# Altium integrated library ST Memory EEPROM Serial.IntLib: 637 symbols (part 6 of 7)
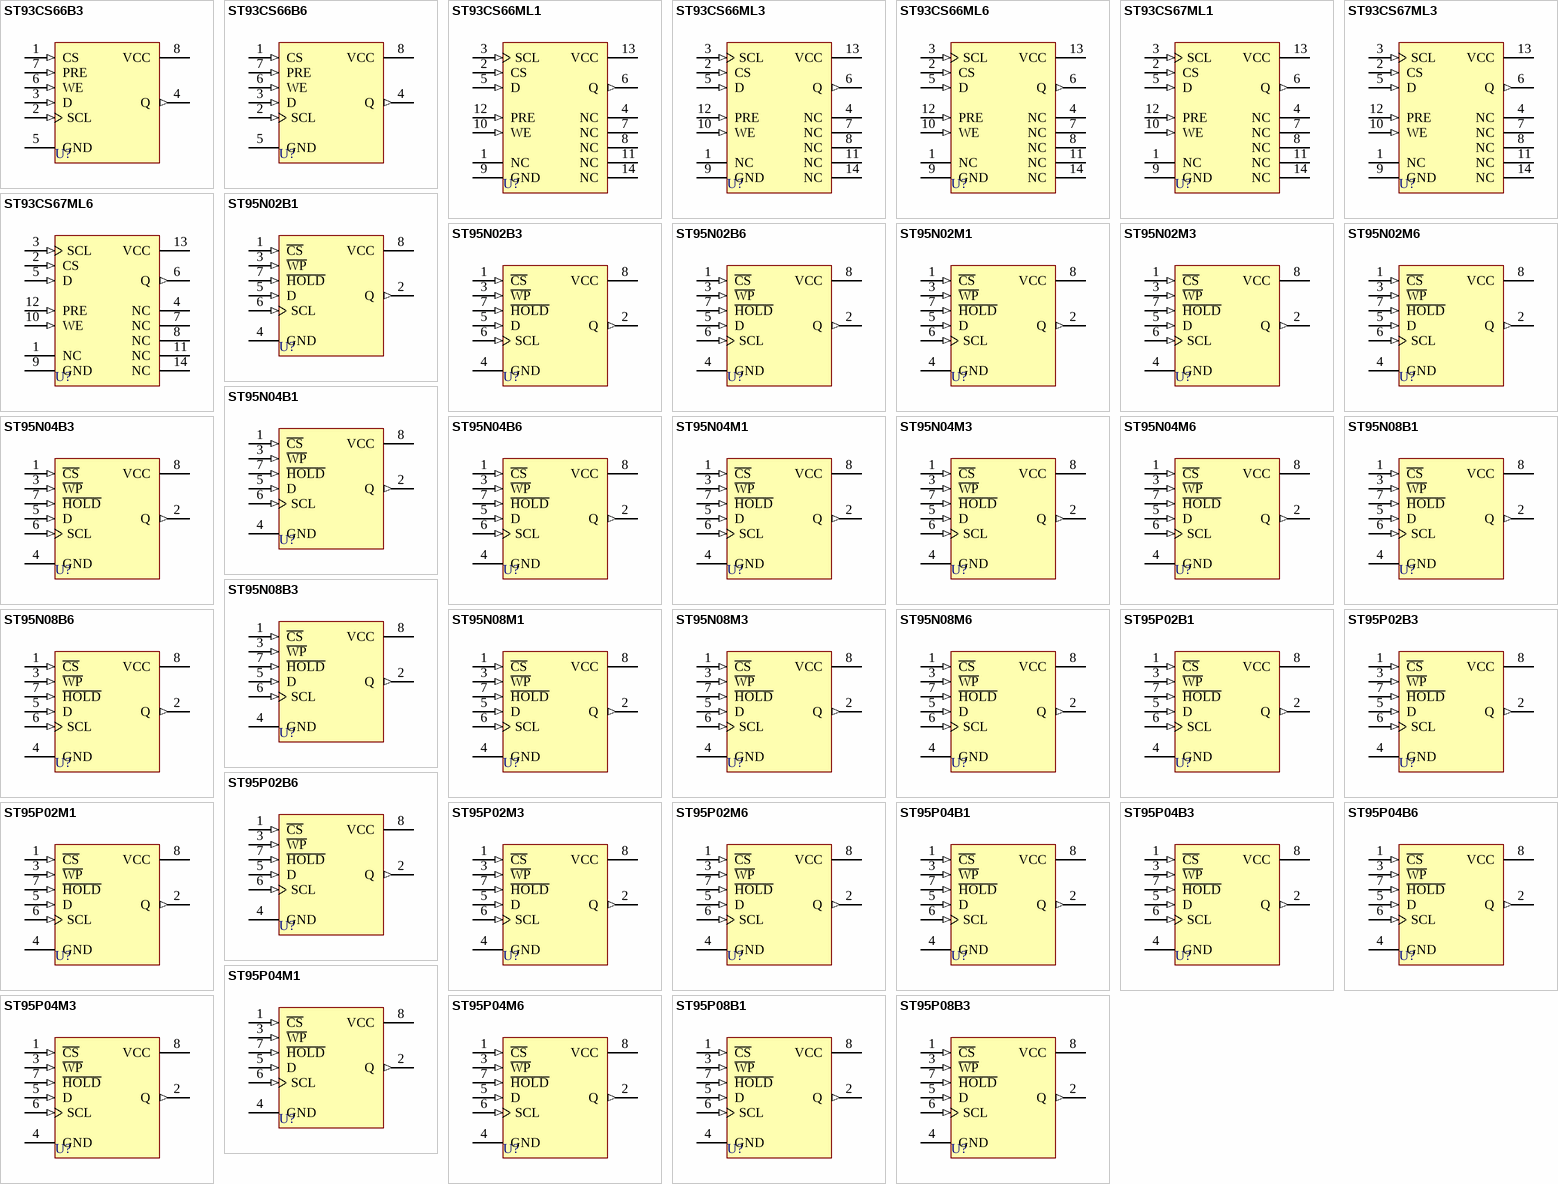
[diagram p20: symbols ST93CS66B3 to ST95P08B3]

## ST95N02B3
designator U?
Serial Access SPI Bus 2K (256 x 8) EEPROM; Published: 24-Aug-2001; LatestRevisionDate: 17-Jul-2002; LatestRevisionNote: Re-released for DXP Platform.; DatasheetDocument: Jun-1995; PackageDocument: Jun-1998; PackageReference: PSDIP8A; Publisher: Altium Limited
footprint PSDIP8A (DIP; 8 Leads; Row Spacing 7.62 mm; Pitch 2.54 mm)
pins: 1 ~{CS} (in), 2 Q (out), 3 ~{WP} (in), 4 GND (power), 5 D (in), 6 SCL (in), 7 ~{HOLD} (in), 8 VCC (power)

## ST95N02B6
designator U?
Serial Access SPI Bus 2K (256 x 8) EEPROM; Published: 24-Aug-2001; LatestRevisionDate: 17-Jul-2002; LatestRevisionNote: Re-released for DXP Platform.; DatasheetDocument: Jun-1995; PackageDocument: Jun-1998; PackageReference: PSDIP8A; Publisher: Altium Limited
footprint PSDIP8A (DIP; 8 Leads; Row Spacing 7.62 mm; Pitch 2.54 mm)
pins: 1 ~{CS} (in), 2 Q (out), 3 ~{WP} (in), 4 GND (power), 5 D (in), 6 SCL (in), 7 ~{HOLD} (in), 8 VCC (power)

## ST95N02M1
designator U?
Serial Access SPI Bus 2K (256 x 8) EEPROM; Published: 24-Aug-2001; LatestRevisionDate: 17-Jul-2002; LatestRevisionNote: Re-released for DXP Platform.; DatasheetDocument: Jun-1995; PackageDocument: Jul-1999; PackageReference: SOP8; Publisher: Altium Limited
footprint SOP8 (Small Outline; 8 Leads; Body Width 3.9 mm; Pitch 1.27 mm)
pins: 1 ~{CS} (in), 2 Q (out), 3 ~{WP} (in), 4 GND (power), 5 D (in), 6 SCL (in), 7 ~{HOLD} (in), 8 VCC (power)

## ST95N02M3
designator U?
Serial Access SPI Bus 2K (256 x 8) EEPROM; Published: 24-Aug-2001; LatestRevisionDate: 17-Jul-2002; LatestRevisionNote: Re-released for DXP Platform.; DatasheetDocument: Jun-1995; PackageDocument: Jul-1999; PackageReference: SOP8; Publisher: Altium Limited
footprint SOP8 (Small Outline; 8 Leads; Body Width 3.9 mm; Pitch 1.27 mm)
pins: 1 ~{CS} (in), 2 Q (out), 3 ~{WP} (in), 4 GND (power), 5 D (in), 6 SCL (in), 7 ~{HOLD} (in), 8 VCC (power)

## ST95N02M6
designator U?
Serial Access SPI Bus 2K (256 x 8) EEPROM; Published: 24-Aug-2001; LatestRevisionDate: 17-Jul-2002; LatestRevisionNote: Re-released for DXP Platform.; DatasheetDocument: Jun-1995; PackageDocument: Jul-1999; PackageReference: SOP8; Publisher: Altium Limited
footprint SOP8 (Small Outline; 8 Leads; Body Width 3.9 mm; Pitch 1.27 mm)
pins: 1 ~{CS} (in), 2 Q (out), 3 ~{WP} (in), 4 GND (power), 5 D (in), 6 SCL (in), 7 ~{HOLD} (in), 8 VCC (power)

## ST95N04B1
designator U?
Serial Access SPI Bus 4K (512 x 8) EEPROM; Published: 24-Aug-2001; LatestRevisionDate: 17-Jul-2002; LatestRevisionNote: Re-released for DXP Platform.; DatasheetDocument: Jun-1995; PackageDocument: Jun-1998; PackageReference: PSDIP8A; Publisher: Altium Limited
footprint PSDIP8A (DIP; 8 Leads; Row Spacing 7.62 mm; Pitch 2.54 mm)
pins: 1 ~{CS} (in), 2 Q (out), 3 ~{WP} (in), 4 GND (power), 5 D (in), 6 SCL (in), 7 ~{HOLD} (in), 8 VCC (power)

## ST95N04B3
designator U?
Serial Access SPI Bus 4K (512 x 8) EEPROM; Published: 24-Aug-2001; LatestRevisionDate: 17-Jul-2002; LatestRevisionNote: Re-released for DXP Platform.; DatasheetDocument: Jun-1995; PackageDocument: Jun-1998; PackageReference: PSDIP8A; Publisher: Altium Limited
footprint PSDIP8A (DIP; 8 Leads; Row Spacing 7.62 mm; Pitch 2.54 mm)
pins: 1 ~{CS} (in), 2 Q (out), 3 ~{WP} (in), 4 GND (power), 5 D (in), 6 SCL (in), 7 ~{HOLD} (in), 8 VCC (power)

## ST95N04B6
designator U?
Serial Access SPI Bus 4K (512 x 8) EEPROM; Published: 24-Aug-2001; LatestRevisionDate: 17-Jul-2002; LatestRevisionNote: Re-released for DXP Platform.; DatasheetDocument: Jun-1995; PackageDocument: Jun-1998; PackageReference: PSDIP8A; Publisher: Altium Limited
footprint PSDIP8A (DIP; 8 Leads; Row Spacing 7.62 mm; Pitch 2.54 mm)
pins: 1 ~{CS} (in), 2 Q (out), 3 ~{WP} (in), 4 GND (power), 5 D (in), 6 SCL (in), 7 ~{HOLD} (in), 8 VCC (power)

## ST95N04M1
designator U?
Serial Access SPI Bus 4K (512 x 8) EEPROM; Published: 24-Aug-2001; LatestRevisionDate: 17-Jul-2002; LatestRevisionNote: Re-released for DXP Platform.; DatasheetDocument: Jun-1995; PackageDocument: Jul-1999; PackageReference: SOP8; Publisher: Altium Limited
footprint SOP8 (Small Outline; 8 Leads; Body Width 3.9 mm; Pitch 1.27 mm)
pins: 1 ~{CS} (in), 2 Q (out), 3 ~{WP} (in), 4 GND (power), 5 D (in), 6 SCL (in), 7 ~{HOLD} (in), 8 VCC (power)

## ST95N04M3
designator U?
Serial Access SPI Bus 4K (512 x 8) EEPROM; Published: 24-Aug-2001; LatestRevisionDate: 17-Jul-2002; LatestRevisionNote: Re-released for DXP Platform.; DatasheetDocument: Jun-1995; PackageDocument: Jul-1999; PackageReference: SOP8; Publisher: Altium Limited
footprint SOP8 (Small Outline; 8 Leads; Body Width 3.9 mm; Pitch 1.27 mm)
pins: 1 ~{CS} (in), 2 Q (out), 3 ~{WP} (in), 4 GND (power), 5 D (in), 6 SCL (in), 7 ~{HOLD} (in), 8 VCC (power)

## ST95N04M6
designator U?
Serial Access SPI Bus 4K (512 x 8) EEPROM; Published: 24-Aug-2001; LatestRevisionDate: 17-Jul-2002; LatestRevisionNote: Re-released for DXP Platform.; DatasheetDocument: Jun-1995; PackageDocument: Jul-1999; PackageReference: SOP8; Publisher: Altium Limited
footprint SOP8 (Small Outline; 8 Leads; Body Width 3.9 mm; Pitch 1.27 mm)
pins: 1 ~{CS} (in), 2 Q (out), 3 ~{WP} (in), 4 GND (power), 5 D (in), 6 SCL (in), 7 ~{HOLD} (in), 8 VCC (power)

## ST95N08B1
designator U?
Serial Access SPI Bus 8K (1K x 8) EEPROM; Published: 24-Aug-2001; LatestRevisionDate: 17-Jul-2002; LatestRevisionNote: Re-released for DXP Platform.; DatasheetDocument: Jun-1995; PackageDocument: Jun-1998; PackageReference: PSDIP8A; Publisher: Altium Limited
footprint PSDIP8A (DIP; 8 Leads; Row Spacing 7.62 mm; Pitch 2.54 mm)
pins: 1 ~{CS} (in), 2 Q (out), 3 ~{WP} (in), 4 GND (power), 5 D (in), 6 SCL (in), 7 ~{HOLD} (in), 8 VCC (power)

## ST95N08B3
designator U?
Serial Access SPI Bus 8K (1K x 8) EEPROM; Published: 24-Aug-2001; LatestRevisionDate: 17-Jul-2002; LatestRevisionNote: Re-released for DXP Platform.; DatasheetDocument: Jun-1995; PackageDocument: Jun-1998; PackageReference: PSDIP8A; Publisher: Altium Limited
footprint PSDIP8A (DIP; 8 Leads; Row Spacing 7.62 mm; Pitch 2.54 mm)
pins: 1 ~{CS} (in), 2 Q (out), 3 ~{WP} (in), 4 GND (power), 5 D (in), 6 SCL (in), 7 ~{HOLD} (in), 8 VCC (power)

## ST95N08B6
designator U?
Serial Access SPI Bus 8K (1K x 8) EEPROM; Published: 24-Aug-2001; LatestRevisionDate: 17-Jul-2002; LatestRevisionNote: Re-released for DXP Platform.; DatasheetDocument: Jun-1995; PackageDocument: Jun-1998; PackageReference: PSDIP8A; Publisher: Altium Limited
footprint PSDIP8A (DIP; 8 Leads; Row Spacing 7.62 mm; Pitch 2.54 mm)
pins: 1 ~{CS} (in), 2 Q (out), 3 ~{WP} (in), 4 GND (power), 5 D (in), 6 SCL (in), 7 ~{HOLD} (in), 8 VCC (power)

## ST95N08M1
designator U?
Serial Access SPI Bus 8K (1K x 8) EEPROM; Published: 24-Aug-2001; LatestRevisionDate: 17-Jul-2002; LatestRevisionNote: Re-released for DXP Platform.; DatasheetDocument: Jun-1995; PackageDocument: Jul-1999; PackageReference: SOP8; Publisher: Altium Limited
footprint SOP8 (Small Outline; 8 Leads; Body Width 3.9 mm; Pitch 1.27 mm)
pins: 1 ~{CS} (in), 2 Q (out), 3 ~{WP} (in), 4 GND (power), 5 D (in), 6 SCL (in), 7 ~{HOLD} (in), 8 VCC (power)

## ST95N08M3
designator U?
Serial Access SPI Bus 8K (1K x 8) EEPROM; Published: 24-Aug-2001; LatestRevisionDate: 17-Jul-2002; LatestRevisionNote: Re-released for DXP Platform.; DatasheetDocument: Jun-1995; PackageDocument: Jul-1999; PackageReference: SOP8; Publisher: Altium Limited
footprint SOP8 (Small Outline; 8 Leads; Body Width 3.9 mm; Pitch 1.27 mm)
pins: 1 ~{CS} (in), 2 Q (out), 3 ~{WP} (in), 4 GND (power), 5 D (in), 6 SCL (in), 7 ~{HOLD} (in), 8 VCC (power)

## ST95N08M6
designator U?
Serial Access SPI Bus 8K (1K x 8) EEPROM; Published: 24-Aug-2001; LatestRevisionDate: 17-Jul-2002; LatestRevisionNote: Re-released for DXP Platform.; DatasheetDocument: Jun-1995; PackageDocument: Jul-1999; PackageReference: SOP8; Publisher: Altium Limited
footprint SOP8 (Small Outline; 8 Leads; Body Width 3.9 mm; Pitch 1.27 mm)
pins: 1 ~{CS} (in), 2 Q (out), 3 ~{WP} (in), 4 GND (power), 5 D (in), 6 SCL (in), 7 ~{HOLD} (in), 8 VCC (power)

## ST95P02B1
designator U?
Serial Access SPI Bus 2K (256 x 8) EEPROM; Published: 24-Aug-2001; LatestRevisionDate: 17-Jul-2002; LatestRevisionNote: Re-released for DXP Platform.; DatasheetDocument: Jun-1996; PackageDocument: Jun-1998; PackageReference: PSDIP8A; Publisher: Altium Limited
footprint PSDIP8A (DIP; 8 Leads; Row Spacing 7.62 mm; Pitch 2.54 mm)
pins: 1 ~{CS} (in), 2 Q (out), 3 ~{WP} (in), 4 GND (power), 5 D (in), 6 SCL (in), 7 ~{HOLD} (in), 8 VCC (power)

## ST95P02B3
designator U?
Serial Access SPI Bus 2K (256 x 8) EEPROM; Published: 24-Aug-2001; LatestRevisionDate: 17-Jul-2002; LatestRevisionNote: Re-released for DXP Platform.; DatasheetDocument: Jun-1996; PackageDocument: Jun-1998; PackageReference: PSDIP8A; Publisher: Altium Limited
footprint PSDIP8A (DIP; 8 Leads; Row Spacing 7.62 mm; Pitch 2.54 mm)
pins: 1 ~{CS} (in), 2 Q (out), 3 ~{WP} (in), 4 GND (power), 5 D (in), 6 SCL (in), 7 ~{HOLD} (in), 8 VCC (power)

## ST95P02B6
designator U?
Serial Access SPI Bus 2K (256 x 8) EEPROM; Published: 24-Aug-2001; LatestRevisionDate: 17-Jul-2002; LatestRevisionNote: Re-released for DXP Platform.; DatasheetDocument: Jun-1996; PackageDocument: Jun-1998; PackageReference: PSDIP8A; Publisher: Altium Limited
footprint PSDIP8A (DIP; 8 Leads; Row Spacing 7.62 mm; Pitch 2.54 mm)
pins: 1 ~{CS} (in), 2 Q (out), 3 ~{WP} (in), 4 GND (power), 5 D (in), 6 SCL (in), 7 ~{HOLD} (in), 8 VCC (power)

## ST95P02M1
designator U?
Serial Access SPI Bus 2K (256 x 8) EEPROM; Published: 24-Aug-2001; LatestRevisionDate: 17-Jul-2002; LatestRevisionNote: Re-released for DXP Platform.; DatasheetDocument: Jun-1996; PackageDocument: Jul-1999; PackageReference: SOP8; Publisher: Altium Limited
footprint SOP8 (Small Outline; 8 Leads; Body Width 3.9 mm; Pitch 1.27 mm)
pins: 1 ~{CS} (in), 2 Q (out), 3 ~{WP} (in), 4 GND (power), 5 D (in), 6 SCL (in), 7 ~{HOLD} (in), 8 VCC (power)

## ST95P02M3
designator U?
Serial Access SPI Bus 2K (256 x 8) EEPROM; Published: 24-Aug-2001; LatestRevisionDate: 17-Jul-2002; LatestRevisionNote: Re-released for DXP Platform.; DatasheetDocument: Jun-1996; PackageDocument: Jul-1999; PackageReference: SOP8; Publisher: Altium Limited
footprint SOP8 (Small Outline; 8 Leads; Body Width 3.9 mm; Pitch 1.27 mm)
pins: 1 ~{CS} (in), 2 Q (out), 3 ~{WP} (in), 4 GND (power), 5 D (in), 6 SCL (in), 7 ~{HOLD} (in), 8 VCC (power)

## ST95P02M6
designator U?
Serial Access SPI Bus 2K (256 x 8) EEPROM; Published: 24-Aug-2001; LatestRevisionDate: 17-Jul-2002; LatestRevisionNote: Re-released for DXP Platform.; DatasheetDocument: Jun-1996; PackageDocument: Jul-1999; PackageReference: SOP8; Publisher: Altium Limited
footprint SOP8 (Small Outline; 8 Leads; Body Width 3.9 mm; Pitch 1.27 mm)
pins: 1 ~{CS} (in), 2 Q (out), 3 ~{WP} (in), 4 GND (power), 5 D (in), 6 SCL (in), 7 ~{HOLD} (in), 8 VCC (power)

## ST95P04B1
designator U?
Serial Access SPI Bus 4K (512 x 8) EEPROM; Published: 24-Aug-2001; LatestRevisionDate: 17-Jul-2002; LatestRevisionNote: Re-released for DXP Platform.; DatasheetDocument: Jun-1996; PackageDocument: Jun-1998; PackageReference: PSDIP8A; Publisher: Altium Limited
footprint PSDIP8A (DIP; 8 Leads; Row Spacing 7.62 mm; Pitch 2.54 mm)
pins: 1 ~{CS} (in), 2 Q (out), 3 ~{WP} (in), 4 GND (power), 5 D (in), 6 SCL (in), 7 ~{HOLD} (in), 8 VCC (power)

## ST95P04B3
designator U?
Serial Access SPI Bus 4K (512 x 8) EEPROM; Published: 24-Aug-2001; LatestRevisionDate: 17-Jul-2002; LatestRevisionNote: Re-released for DXP Platform.; DatasheetDocument: Jun-1996; PackageDocument: Jun-1998; PackageReference: PSDIP8A; Publisher: Altium Limited
footprint PSDIP8A (DIP; 8 Leads; Row Spacing 7.62 mm; Pitch 2.54 mm)
pins: 1 ~{CS} (in), 2 Q (out), 3 ~{WP} (in), 4 GND (power), 5 D (in), 6 SCL (in), 7 ~{HOLD} (in), 8 VCC (power)

## ST95P04B6
designator U?
Serial Access SPI Bus 4K (512 x 8) EEPROM; Published: 24-Aug-2001; LatestRevisionDate: 17-Jul-2002; LatestRevisionNote: Re-released for DXP Platform.; DatasheetDocument: Jun-1996; PackageDocument: Jun-1998; PackageReference: PSDIP8A; Publisher: Altium Limited
footprint PSDIP8A (DIP; 8 Leads; Row Spacing 7.62 mm; Pitch 2.54 mm)
pins: 1 ~{CS} (in), 2 Q (out), 3 ~{WP} (in), 4 GND (power), 5 D (in), 6 SCL (in), 7 ~{HOLD} (in), 8 VCC (power)

## ST95P04M1
designator U?
Serial Access SPI Bus 4K (512 x 8) EEPROM; Published: 24-Aug-2001; LatestRevisionDate: 17-Jul-2002; LatestRevisionNote: Re-released for DXP Platform.; DatasheetDocument: Jun-1996; PackageDocument: Jul-1999; PackageReference: SOP8; Publisher: Altium Limited
footprint SOP8 (Small Outline; 8 Leads; Body Width 3.9 mm; Pitch 1.27 mm)
pins: 1 ~{CS} (in), 2 Q (out), 3 ~{WP} (in), 4 GND (power), 5 D (in), 6 SCL (in), 7 ~{HOLD} (in), 8 VCC (power)

## ST95P04M3
designator U?
Serial Access SPI Bus 4K (512 x 8) EEPROM; Published: 24-Aug-2001; LatestRevisionDate: 17-Jul-2002; LatestRevisionNote: Re-released for DXP Platform.; DatasheetDocument: Jun-1996; PackageDocument: Jul-1999; PackageReference: SOP8; Publisher: Altium Limited
footprint SOP8 (Small Outline; 8 Leads; Body Width 3.9 mm; Pitch 1.27 mm)
pins: 1 ~{CS} (in), 2 Q (out), 3 ~{WP} (in), 4 GND (power), 5 D (in), 6 SCL (in), 7 ~{HOLD} (in), 8 VCC (power)

## ST95P04M6
designator U?
Serial Access SPI Bus 4K (512 x 8) EEPROM; Published: 24-Aug-2001; LatestRevisionDate: 17-Jul-2002; LatestRevisionNote: Re-released for DXP Platform.; DatasheetDocument: Jun-1996; PackageDocument: Jul-1999; PackageReference: SOP8; Publisher: Altium Limited
footprint SOP8 (Small Outline; 8 Leads; Body Width 3.9 mm; Pitch 1.27 mm)
pins: 1 ~{CS} (in), 2 Q (out), 3 ~{WP} (in), 4 GND (power), 5 D (in), 6 SCL (in), 7 ~{HOLD} (in), 8 VCC (power)

## ST95P08B1
designator U?
8 Kbit Serial SPI EEPROM with Positive Clock Strobe; Published: 24-Aug-2001; LatestRevisionDate: 17-Jul-2002; LatestRevisionNote: Re-released for DXP Platform.; DatasheetDocument: Feb-1999; PackageDocument: Jun-1998; PackageReference: PSDIP8A; Publisher: Altium Limited
footprint PSDIP8A (DIP; 8 Leads; Row Spacing 7.62 mm; Pitch 2.54 mm)
pins: 1 ~{CS} (in), 2 Q (out), 3 ~{WP} (in), 4 GND (power), 5 D (in), 6 SCL (in), 7 ~{HOLD} (in), 8 VCC (power)

## ST95P08B3
designator U?
8 Kbit Serial SPI EEPROM with Positive Clock Strobe; Published: 24-Aug-2001; LatestRevisionDate: 17-Jul-2002; LatestRevisionNote: Re-released for DXP Platform.; DatasheetDocument: Feb-1999; PackageDocument: Jun-1998; PackageReference: PSDIP8A; Publisher: Altium Limited
footprint PSDIP8A (DIP; 8 Leads; Row Spacing 7.62 mm; Pitch 2.54 mm)
pins: 1 ~{CS} (in), 2 Q (out), 3 ~{WP} (in), 4 GND (power), 5 D (in), 6 SCL (in), 7 ~{HOLD} (in), 8 VCC (power)

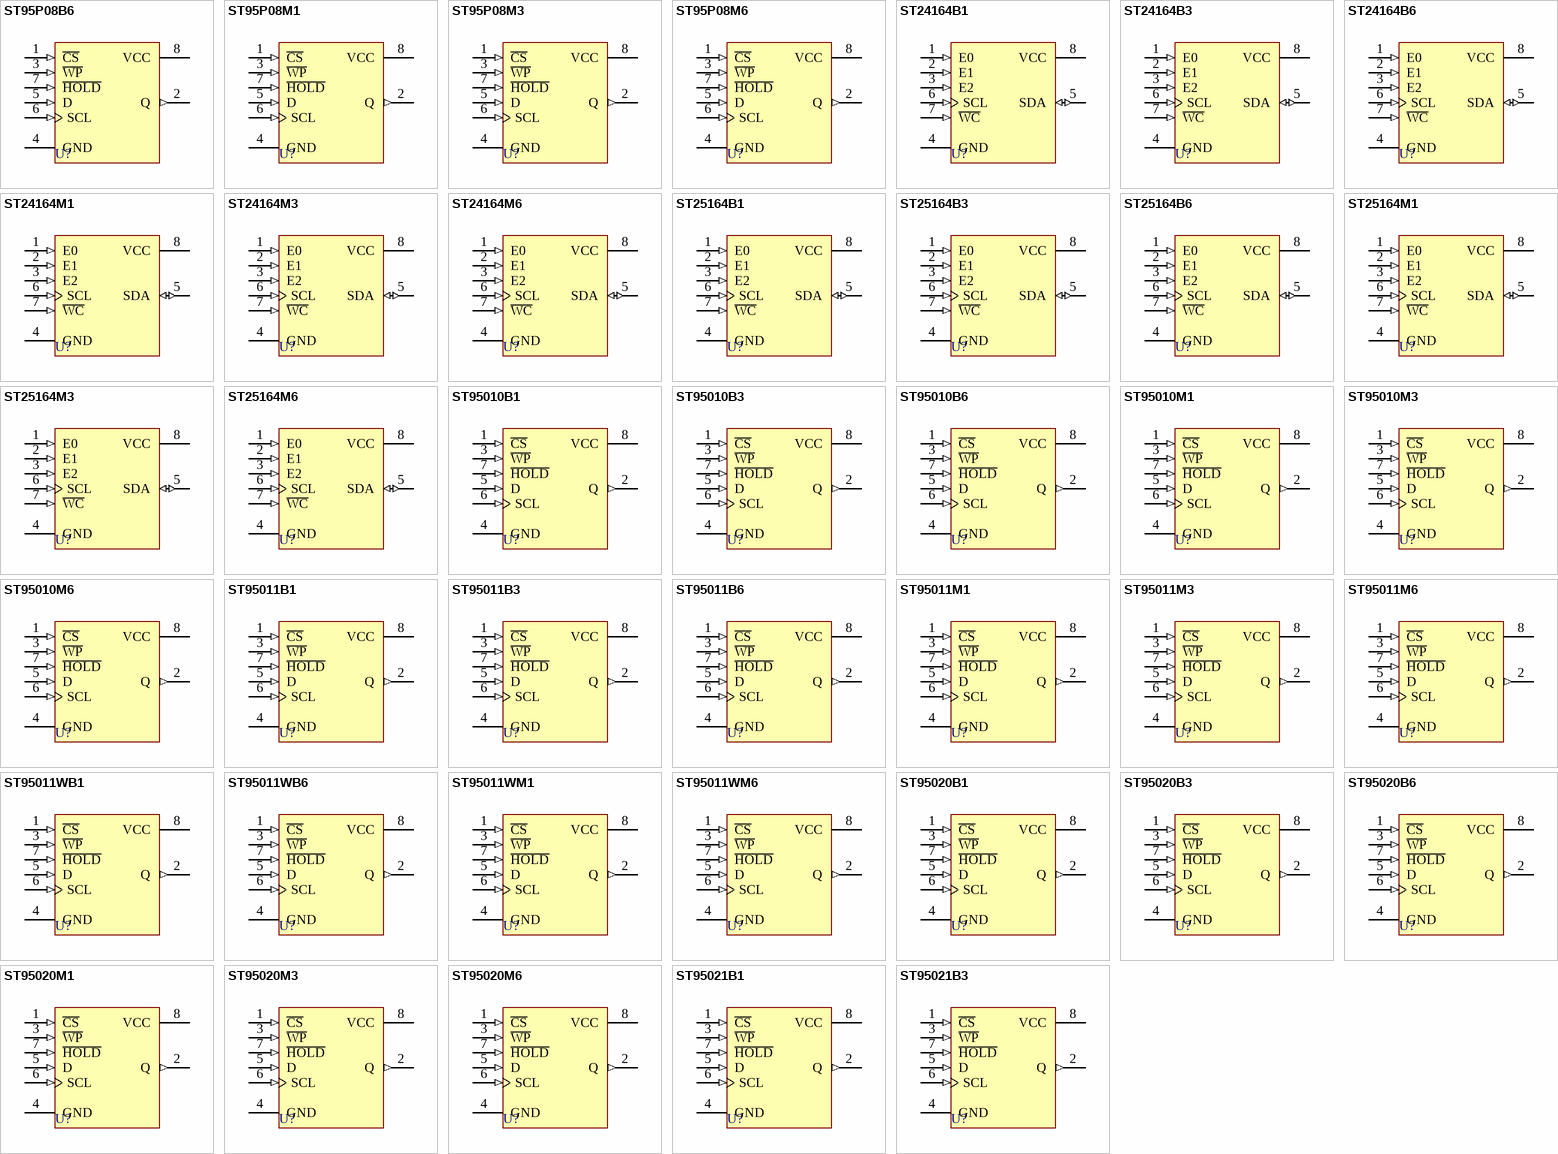
[diagram p14: symbols ST95P08B6 to ST95021B3]

## ST95P08B6
designator U?
8 Kbit Serial SPI EEPROM with Positive Clock Strobe; Published: 24-Aug-2001; LatestRevisionDate: 17-Jul-2002; LatestRevisionNote: Re-released for DXP Platform.; DatasheetDocument: Feb-1999; PackageDocument: Jun-1998; PackageReference: PSDIP8A; Publisher: Altium Limited
footprint PSDIP8A (DIP; 8 Leads; Row Spacing 7.62 mm; Pitch 2.54 mm)
pins: 1 ~{CS} (in), 2 Q (out), 3 ~{WP} (in), 4 GND (power), 5 D (in), 6 SCL (in), 7 ~{HOLD} (in), 8 VCC (power)

## ST95P08M1
designator U?
8 Kbit Serial SPI EEPROM with Positive Clock Strobe; Published: 24-Aug-2001; LatestRevisionDate: 17-Jul-2002; LatestRevisionNote: Re-released for DXP Platform.; DatasheetDocument: Feb-1999; PackageDocument: Jul-1999; PackageReference: SOP8; Publisher: Altium Limited
footprint SOP8 (Small Outline; 8 Leads; Body Width 3.9 mm; Pitch 1.27 mm)
pins: 1 ~{CS} (in), 2 Q (out), 3 ~{WP} (in), 4 GND (power), 5 D (in), 6 SCL (in), 7 ~{HOLD} (in), 8 VCC (power)

## ST95P08M3
designator U?
8 Kbit Serial SPI EEPROM with Positive Clock Strobe; Published: 24-Aug-2001; LatestRevisionDate: 17-Jul-2002; LatestRevisionNote: Re-released for DXP Platform.; DatasheetDocument: Feb-1999; PackageDocument: Jul-1999; PackageReference: SOP8; Publisher: Altium Limited
footprint SOP8 (Small Outline; 8 Leads; Body Width 3.9 mm; Pitch 1.27 mm)
pins: 1 ~{CS} (in), 2 Q (out), 3 ~{WP} (in), 4 GND (power), 5 D (in), 6 SCL (in), 7 ~{HOLD} (in), 8 VCC (power)

## ST95P08M6
designator U?
8 Kbit Serial SPI EEPROM with Positive Clock Strobe; Published: 24-Aug-2001; LatestRevisionDate: 17-Jul-2002; LatestRevisionNote: Re-released for DXP Platform.; DatasheetDocument: Feb-1999; PackageDocument: Jul-1999; PackageReference: SOP8; Publisher: Altium Limited
footprint SOP8 (Small Outline; 8 Leads; Body Width 3.9 mm; Pitch 1.27 mm)
pins: 1 ~{CS} (in), 2 Q (out), 3 ~{WP} (in), 4 GND (power), 5 D (in), 6 SCL (in), 7 ~{HOLD} (in), 8 VCC (power)

## ST24164B1
designator U?
16Kb (x8) Serial EEPROM; Published: 24-Aug-2001; LatestRevisionDate: 17-Jul-2002; LatestRevisionNote: Re-released for DXP Platform.; DatasheetDocument: Nov-1997; PackageDocument: Jun-1998; PackageReference: PSDIP8A; Publisher: Altium Limited
footprint PSDIP8A (DIP; 8 Leads; Row Spacing 7.62 mm; Pitch 2.54 mm)
pins: 1 E0 (in), 2 E1 (in), 3 E2 (in), 4 GND (power), 5 SDA (io), 6 SCL (in), 7 ~{WC} (in), 8 VCC (power)

## ST24164B3
designator U?
16Kb (x8) Serial EEPROM; Published: 24-Aug-2001; LatestRevisionDate: 17-Jul-2002; LatestRevisionNote: Re-released for DXP Platform.; DatasheetDocument: Nov-1997; PackageDocument: Jun-1998; PackageReference: PSDIP8A; Publisher: Altium Limited
footprint PSDIP8A (DIP; 8 Leads; Row Spacing 7.62 mm; Pitch 2.54 mm)
pins: 1 E0 (in), 2 E1 (in), 3 E2 (in), 4 GND (power), 5 SDA (io), 6 SCL (in), 7 ~{WC} (in), 8 VCC (power)

## ST24164B6
designator U?
16Kb (x8) Serial EEPROM; Published: 24-Aug-2001; LatestRevisionDate: 17-Jul-2002; LatestRevisionNote: Re-released for DXP Platform.; DatasheetDocument: Nov-1997; PackageDocument: Jun-1998; PackageReference: PSDIP8A; Publisher: Altium Limited
footprint PSDIP8A (DIP; 8 Leads; Row Spacing 7.62 mm; Pitch 2.54 mm)
pins: 1 E0 (in), 2 E1 (in), 3 E2 (in), 4 GND (power), 5 SDA (io), 6 SCL (in), 7 ~{WC} (in), 8 VCC (power)

## ST24164M1
designator U?
16Kb (x8) Serial EEPROM; Published: 24-Aug-2001; LatestRevisionDate: 17-Jul-2002; LatestRevisionNote: Re-released for DXP Platform.; DatasheetDocument: Nov-1997; PackageDocument: Jul-1999; PackageReference: SOP8; Publisher: Altium Limited
footprint SOP8 (Small Outline; 8 Leads; Body Width 3.9 mm; Pitch 1.27 mm)
pins: 1 E0 (in), 2 E1 (in), 3 E2 (in), 4 GND (power), 5 SDA (io), 6 SCL (in), 7 ~{WC} (in), 8 VCC (power)

## ST24164M3
designator U?
16Kb (x8) Serial EEPROM; Published: 24-Aug-2001; LatestRevisionDate: 17-Jul-2002; LatestRevisionNote: Re-released for DXP Platform.; DatasheetDocument: Nov-1997; PackageDocument: Jul-1999; PackageReference: SOP8; Publisher: Altium Limited
footprint SOP8 (Small Outline; 8 Leads; Body Width 3.9 mm; Pitch 1.27 mm)
pins: 1 E0 (in), 2 E1 (in), 3 E2 (in), 4 GND (power), 5 SDA (io), 6 SCL (in), 7 ~{WC} (in), 8 VCC (power)

## ST24164M6
designator U?
16Kb (x8) Serial EEPROM; Published: 24-Aug-2001; LatestRevisionDate: 17-Jul-2002; LatestRevisionNote: Re-released for DXP Platform.; DatasheetDocument: Nov-1997; PackageDocument: Jul-1999; PackageReference: SOP8; Publisher: Altium Limited
footprint SOP8 (Small Outline; 8 Leads; Body Width 3.9 mm; Pitch 1.27 mm)
pins: 1 E0 (in), 2 E1 (in), 3 E2 (in), 4 GND (power), 5 SDA (io), 6 SCL (in), 7 ~{WC} (in), 8 VCC (power)

## ST25164B1
designator U?
16Kb (x8) Serial EEPROM; Published: 24-Aug-2001; LatestRevisionDate: 17-Jul-2002; LatestRevisionNote: Re-released for DXP Platform.; DatasheetDocument: Nov-1997; PackageDocument: Jun-1998; PackageReference: PSDIP8A; Publisher: Altium Limited
footprint PSDIP8A (DIP; 8 Leads; Row Spacing 7.62 mm; Pitch 2.54 mm)
pins: 1 E0 (in), 2 E1 (in), 3 E2 (in), 4 GND (power), 5 SDA (io), 6 SCL (in), 7 ~{WC} (in), 8 VCC (power)

## ST25164B3
designator U?
16Kb (x8) Serial EEPROM; Published: 24-Aug-2001; LatestRevisionDate: 17-Jul-2002; LatestRevisionNote: Re-released for DXP Platform.; DatasheetDocument: Nov-1997; PackageDocument: Jun-1998; PackageReference: PSDIP8A; Publisher: Altium Limited
footprint PSDIP8A (DIP; 8 Leads; Row Spacing 7.62 mm; Pitch 2.54 mm)
pins: 1 E0 (in), 2 E1 (in), 3 E2 (in), 4 GND (power), 5 SDA (io), 6 SCL (in), 7 ~{WC} (in), 8 VCC (power)

## ST25164B6
designator U?
16Kb (x8) Serial EEPROM; Published: 24-Aug-2001; LatestRevisionDate: 17-Jul-2002; LatestRevisionNote: Re-released for DXP Platform.; DatasheetDocument: Nov-1997; PackageDocument: Jun-1998; PackageReference: PSDIP8A; Publisher: Altium Limited
footprint PSDIP8A (DIP; 8 Leads; Row Spacing 7.62 mm; Pitch 2.54 mm)
pins: 1 E0 (in), 2 E1 (in), 3 E2 (in), 4 GND (power), 5 SDA (io), 6 SCL (in), 7 ~{WC} (in), 8 VCC (power)

## ST25164M1
designator U?
16Kb (x8) Serial EEPROM; Published: 24-Aug-2001; LatestRevisionDate: 17-Jul-2002; LatestRevisionNote: Re-released for DXP Platform.; DatasheetDocument: Nov-1997; PackageDocument: Jul-1999; PackageReference: SOP8; Publisher: Altium Limited
footprint SOP8 (Small Outline; 8 Leads; Body Width 3.9 mm; Pitch 1.27 mm)
pins: 1 E0 (in), 2 E1 (in), 3 E2 (in), 4 GND (power), 5 SDA (io), 6 SCL (in), 7 ~{WC} (in), 8 VCC (power)

## ST25164M3
designator U?
16Kb (x8) Serial EEPROM; Published: 24-Aug-2001; LatestRevisionDate: 17-Jul-2002; LatestRevisionNote: Re-released for DXP Platform.; DatasheetDocument: Nov-1997; PackageDocument: Jul-1999; PackageReference: SOP8; Publisher: Altium Limited
footprint SOP8 (Small Outline; 8 Leads; Body Width 3.9 mm; Pitch 1.27 mm)
pins: 1 E0 (in), 2 E1 (in), 3 E2 (in), 4 GND (power), 5 SDA (io), 6 SCL (in), 7 ~{WC} (in), 8 VCC (power)

## ST25164M6
designator U?
16Kb (x8) Serial EEPROM; Published: 24-Aug-2001; LatestRevisionDate: 17-Jul-2002; LatestRevisionNote: Re-released for DXP Platform.; DatasheetDocument: Nov-1997; PackageDocument: Jul-1999; PackageReference: SOP8; Publisher: Altium Limited
footprint SOP8 (Small Outline; 8 Leads; Body Width 3.9 mm; Pitch 1.27 mm)
pins: 1 E0 (in), 2 E1 (in), 3 E2 (in), 4 GND (power), 5 SDA (io), 6 SCL (in), 7 ~{WC} (in), 8 VCC (power)

## ST95010B1
designator U?
1K Serial SPI EEPROM with Positive Clock Strobe; Published: 24-Aug-2001; LatestRevisionDate: 17-Jul-2002; LatestRevisionNote: Re-released for DXP Platform.; DatasheetDocument: Jun-1998; PackageDocument: Jun-1998; PackageReference: PSDIP8A; Publisher: Altium Limited
footprint PSDIP8A (DIP; 8 Leads; Row Spacing 7.62 mm; Pitch 2.54 mm)
pins: 1 ~{CS} (in), 2 Q (out), 3 ~{WP} (in), 4 GND (power), 5 D (in), 6 SCL (in), 7 ~{HOLD} (in), 8 VCC (power)

## ST95010B3
designator U?
1K Serial SPI EEPROM with Positive Clock Strobe; Published: 24-Aug-2001; LatestRevisionDate: 17-Jul-2002; LatestRevisionNote: Re-released for DXP Platform.; DatasheetDocument: Jun-1998; PackageDocument: Jun-1998; PackageReference: PSDIP8A; Publisher: Altium Limited
footprint PSDIP8A (DIP; 8 Leads; Row Spacing 7.62 mm; Pitch 2.54 mm)
pins: 1 ~{CS} (in), 2 Q (out), 3 ~{WP} (in), 4 GND (power), 5 D (in), 6 SCL (in), 7 ~{HOLD} (in), 8 VCC (power)

## ST95010B6
designator U?
1K Serial SPI EEPROM with Positive Clock Strobe; Published: 24-Aug-2001; LatestRevisionDate: 17-Jul-2002; LatestRevisionNote: Re-released for DXP Platform.; DatasheetDocument: Jun-1998; PackageDocument: Jun-1998; PackageReference: PSDIP8A; Publisher: Altium Limited
footprint PSDIP8A (DIP; 8 Leads; Row Spacing 7.62 mm; Pitch 2.54 mm)
pins: 1 ~{CS} (in), 2 Q (out), 3 ~{WP} (in), 4 GND (power), 5 D (in), 6 SCL (in), 7 ~{HOLD} (in), 8 VCC (power)

## ST95010M1
designator U?
1K Serial SPI EEPROM with Positive Clock Strobe; Published: 24-Aug-2001; LatestRevisionDate: 17-Jul-2002; LatestRevisionNote: Re-released for DXP Platform.; DatasheetDocument: Jun-1998; PackageDocument: Jul-1999; PackageReference: SOP8; Publisher: Altium Limited
footprint SOP8 (Small Outline; 8 Leads; Body Width 3.9 mm; Pitch 1.27 mm)
pins: 1 ~{CS} (in), 2 Q (out), 3 ~{WP} (in), 4 GND (power), 5 D (in), 6 SCL (in), 7 ~{HOLD} (in), 8 VCC (power)

## ST95010M3
designator U?
1K Serial SPI EEPROM with Positive Clock Strobe; Published: 24-Aug-2001; LatestRevisionDate: 17-Jul-2002; LatestRevisionNote: Re-released for DXP Platform.; DatasheetDocument: Jun-1998; PackageDocument: Jul-1999; PackageReference: SOP8; Publisher: Altium Limited
footprint SOP8 (Small Outline; 8 Leads; Body Width 3.9 mm; Pitch 1.27 mm)
pins: 1 ~{CS} (in), 2 Q (out), 3 ~{WP} (in), 4 GND (power), 5 D (in), 6 SCL (in), 7 ~{HOLD} (in), 8 VCC (power)

## ST95010M6
designator U?
1K Serial SPI EEPROM with Positive Clock Strobe; Published: 24-Aug-2001; LatestRevisionDate: 17-Jul-2002; LatestRevisionNote: Re-released for DXP Platform.; DatasheetDocument: Jun-1998; PackageDocument: Jul-1999; PackageReference: SOP8; Publisher: Altium Limited
footprint SOP8 (Small Outline; 8 Leads; Body Width 3.9 mm; Pitch 1.27 mm)
pins: 1 ~{CS} (in), 2 Q (out), 3 ~{WP} (in), 4 GND (power), 5 D (in), 6 SCL (in), 7 ~{HOLD} (in), 8 VCC (power)

## ST95011B1
designator U?
1K Serial SPI EEPROM with Negative Clock Strobe; Published: 24-Aug-2001; LatestRevisionDate: 17-Jul-2002; LatestRevisionNote: Re-released for DXP Platform.; DatasheetDocument: Feb-1997; PackageDocument: Jun-1998; PackageReference: PSDIP8A; Publisher: Altium Limited
footprint PSDIP8A (DIP; 8 Leads; Row Spacing 7.62 mm; Pitch 2.54 mm)
pins: 1 ~{CS} (in), 2 Q (out), 3 ~{WP} (in), 4 GND (power), 5 D (in), 6 SCL (in), 7 ~{HOLD} (in), 8 VCC (power)

## ST95011B3
designator U?
1K Serial SPI EEPROM with Negative Clock Strobe; Published: 24-Aug-2001; LatestRevisionDate: 17-Jul-2002; LatestRevisionNote: Re-released for DXP Platform.; DatasheetDocument: Feb-1997; PackageDocument: Jun-1998; PackageReference: PSDIP8A; Publisher: Altium Limited
footprint PSDIP8A (DIP; 8 Leads; Row Spacing 7.62 mm; Pitch 2.54 mm)
pins: 1 ~{CS} (in), 2 Q (out), 3 ~{WP} (in), 4 GND (power), 5 D (in), 6 SCL (in), 7 ~{HOLD} (in), 8 VCC (power)

## ST95011B6
designator U?
1K Serial SPI EEPROM with Negative Clock Strobe; Published: 24-Aug-2001; LatestRevisionDate: 17-Jul-2002; LatestRevisionNote: Re-released for DXP Platform.; DatasheetDocument: Feb-1997; PackageDocument: Jun-1998; PackageReference: PSDIP8A; Publisher: Altium Limited
footprint PSDIP8A (DIP; 8 Leads; Row Spacing 7.62 mm; Pitch 2.54 mm)
pins: 1 ~{CS} (in), 2 Q (out), 3 ~{WP} (in), 4 GND (power), 5 D (in), 6 SCL (in), 7 ~{HOLD} (in), 8 VCC (power)

## ST95011M1
designator U?
1K Serial SPI EEPROM with Negative Clock Strobe; Published: 24-Aug-2001; LatestRevisionDate: 17-Jul-2002; LatestRevisionNote: Re-released for DXP Platform.; DatasheetDocument: Feb-1997; PackageDocument: Jul-1999; PackageReference: SOP8; Publisher: Altium Limited
footprint SOP8 (Small Outline; 8 Leads; Body Width 3.9 mm; Pitch 1.27 mm)
pins: 1 ~{CS} (in), 2 Q (out), 3 ~{WP} (in), 4 GND (power), 5 D (in), 6 SCL (in), 7 ~{HOLD} (in), 8 VCC (power)

## ST95011M3
designator U?
1K Serial SPI EEPROM with Negative Clock Strobe; Published: 24-Aug-2001; LatestRevisionDate: 17-Jul-2002; LatestRevisionNote: Re-released for DXP Platform.; DatasheetDocument: Feb-1997; PackageDocument: Jul-1999; PackageReference: SOP8; Publisher: Altium Limited
footprint SOP8 (Small Outline; 8 Leads; Body Width 3.9 mm; Pitch 1.27 mm)
pins: 1 ~{CS} (in), 2 Q (out), 3 ~{WP} (in), 4 GND (power), 5 D (in), 6 SCL (in), 7 ~{HOLD} (in), 8 VCC (power)

## ST95011M6
designator U?
1K Serial SPI EEPROM with Negative Clock Strobe; Published: 24-Aug-2001; LatestRevisionDate: 17-Jul-2002; LatestRevisionNote: Re-released for DXP Platform.; DatasheetDocument: Feb-1997; PackageDocument: Jul-1999; PackageReference: SOP8; Publisher: Altium Limited
footprint SOP8 (Small Outline; 8 Leads; Body Width 3.9 mm; Pitch 1.27 mm)
pins: 1 ~{CS} (in), 2 Q (out), 3 ~{WP} (in), 4 GND (power), 5 D (in), 6 SCL (in), 7 ~{HOLD} (in), 8 VCC (power)

## ST95011WB1
designator U?
1K Serial SPI EEPROM with Negative Clock Strobe; Published: 24-Aug-2001; LatestRevisionDate: 17-Jul-2002; LatestRevisionNote: Re-released for DXP Platform.; DatasheetDocument: Feb-1997; PackageDocument: Jun-1998; PackageReference: PSDIP8A; Publisher: Altium Limited
footprint PSDIP8A (DIP; 8 Leads; Row Spacing 7.62 mm; Pitch 2.54 mm)
pins: 1 ~{CS} (in), 2 Q (out), 3 ~{WP} (in), 4 GND (power), 5 D (in), 6 SCL (in), 7 ~{HOLD} (in), 8 VCC (power)

## ST95011WB6
designator U?
1K Serial SPI EEPROM with Negative Clock Strobe; Published: 24-Aug-2001; LatestRevisionDate: 17-Jul-2002; LatestRevisionNote: Re-released for DXP Platform.; DatasheetDocument: Feb-1997; PackageDocument: Jun-1998; PackageReference: PSDIP8A; Publisher: Altium Limited
footprint PSDIP8A (DIP; 8 Leads; Row Spacing 7.62 mm; Pitch 2.54 mm)
pins: 1 ~{CS} (in), 2 Q (out), 3 ~{WP} (in), 4 GND (power), 5 D (in), 6 SCL (in), 7 ~{HOLD} (in), 8 VCC (power)

## ST95011WM1
designator U?
1K Serial SPI EEPROM with Negative Clock Strobe; Published: 24-Aug-2001; LatestRevisionDate: 17-Jul-2002; LatestRevisionNote: Re-released for DXP Platform.; DatasheetDocument: Feb-1997; PackageDocument: Jul-1999; PackageReference: SOP8; Publisher: Altium Limited
footprint SOP8 (Small Outline; 8 Leads; Body Width 3.9 mm; Pitch 1.27 mm)
pins: 1 ~{CS} (in), 2 Q (out), 3 ~{WP} (in), 4 GND (power), 5 D (in), 6 SCL (in), 7 ~{HOLD} (in), 8 VCC (power)

## ST95011WM6
designator U?
1K Serial SPI EEPROM with Negative Clock Strobe; Published: 24-Aug-2001; LatestRevisionDate: 17-Jul-2002; LatestRevisionNote: Re-released for DXP Platform.; DatasheetDocument: Feb-1997; PackageDocument: Jul-1999; PackageReference: SOP8; Publisher: Altium Limited
footprint SOP8 (Small Outline; 8 Leads; Body Width 3.9 mm; Pitch 1.27 mm)
pins: 1 ~{CS} (in), 2 Q (out), 3 ~{WP} (in), 4 GND (power), 5 D (in), 6 SCL (in), 7 ~{HOLD} (in), 8 VCC (power)

## ST95020B1
designator U?
2K Serial SPI EEPROM with Positive Clock Strobe; Published: 24-Aug-2001; LatestRevisionDate: 17-Jul-2002; LatestRevisionNote: Re-released for DXP Platform.; DatasheetDocument: Jun-1998; PackageDocument: Jun-1998; PackageReference: PSDIP8A; Publisher: Altium Limited
footprint PSDIP8A (DIP; 8 Leads; Row Spacing 7.62 mm; Pitch 2.54 mm)
pins: 1 ~{CS} (in), 2 Q (out), 3 ~{WP} (in), 4 GND (power), 5 D (in), 6 SCL (in), 7 ~{HOLD} (in), 8 VCC (power)

## ST95020B3
designator U?
2K Serial SPI EEPROM with Positive Clock Strobe; Published: 24-Aug-2001; LatestRevisionDate: 17-Jul-2002; LatestRevisionNote: Re-released for DXP Platform.; DatasheetDocument: Jun-1998; PackageDocument: Jun-1998; PackageReference: PSDIP8A; Publisher: Altium Limited
footprint PSDIP8A (DIP; 8 Leads; Row Spacing 7.62 mm; Pitch 2.54 mm)
pins: 1 ~{CS} (in), 2 Q (out), 3 ~{WP} (in), 4 GND (power), 5 D (in), 6 SCL (in), 7 ~{HOLD} (in), 8 VCC (power)

## ST95020B6
designator U?
2K Serial SPI EEPROM with Positive Clock Strobe; Published: 24-Aug-2001; LatestRevisionDate: 17-Jul-2002; LatestRevisionNote: Re-released for DXP Platform.; DatasheetDocument: Jun-1998; PackageDocument: Jun-1998; PackageReference: PSDIP8A; Publisher: Altium Limited
footprint PSDIP8A (DIP; 8 Leads; Row Spacing 7.62 mm; Pitch 2.54 mm)
pins: 1 ~{CS} (in), 2 Q (out), 3 ~{WP} (in), 4 GND (power), 5 D (in), 6 SCL (in), 7 ~{HOLD} (in), 8 VCC (power)

## ST95020M1
designator U?
2K Serial SPI EEPROM with Positive Clock Strobe; Published: 24-Aug-2001; LatestRevisionDate: 17-Jul-2002; LatestRevisionNote: Re-released for DXP Platform.; DatasheetDocument: Jun-1998; PackageDocument: Jul-1999; PackageReference: SOP8; Publisher: Altium Limited
footprint SOP8 (Small Outline; 8 Leads; Body Width 3.9 mm; Pitch 1.27 mm)
pins: 1 ~{CS} (in), 2 Q (out), 3 ~{WP} (in), 4 GND (power), 5 D (in), 6 SCL (in), 7 ~{HOLD} (in), 8 VCC (power)

## ST95020M3
designator U?
2K Serial SPI EEPROM with Positive Clock Strobe; Published: 24-Aug-2001; LatestRevisionDate: 17-Jul-2002; LatestRevisionNote: Re-released for DXP Platform.; DatasheetDocument: Jun-1998; PackageDocument: Jul-1999; PackageReference: SOP8; Publisher: Altium Limited
footprint SOP8 (Small Outline; 8 Leads; Body Width 3.9 mm; Pitch 1.27 mm)
pins: 1 ~{CS} (in), 2 Q (out), 3 ~{WP} (in), 4 GND (power), 5 D (in), 6 SCL (in), 7 ~{HOLD} (in), 8 VCC (power)

## ST95020M6
designator U?
2K Serial SPI EEPROM with Positive Clock Strobe; Published: 24-Aug-2001; LatestRevisionDate: 17-Jul-2002; LatestRevisionNote: Re-released for DXP Platform.; DatasheetDocument: Jun-1998; PackageDocument: Jul-1999; PackageReference: SOP8; Publisher: Altium Limited
footprint SOP8 (Small Outline; 8 Leads; Body Width 3.9 mm; Pitch 1.27 mm)
pins: 1 ~{CS} (in), 2 Q (out), 3 ~{WP} (in), 4 GND (power), 5 D (in), 6 SCL (in), 7 ~{HOLD} (in), 8 VCC (power)

## ST95021B1
designator U?
2K Serial SPI EEPROM with Negative Clock Strobe; Published: 24-Aug-2001; LatestRevisionDate: 17-Jul-2002; LatestRevisionNote: Re-released for DXP Platform.; DatasheetDocument: Feb-1997; PackageDocument: Jun-1998; PackageReference: PSDIP8A; Publisher: Altium Limited
footprint PSDIP8A (DIP; 8 Leads; Row Spacing 7.62 mm; Pitch 2.54 mm)
pins: 1 ~{CS} (in), 2 Q (out), 3 ~{WP} (in), 4 GND (power), 5 D (in), 6 SCL (in), 7 ~{HOLD} (in), 8 VCC (power)

## ST95021B3
designator U?
2K Serial SPI EEPROM with Negative Clock Strobe; Published: 24-Aug-2001; LatestRevisionDate: 17-Jul-2002; LatestRevisionNote: Re-released for DXP Platform.; DatasheetDocument: Feb-1997; PackageDocument: Jun-1998; PackageReference: PSDIP8A; Publisher: Altium Limited
footprint PSDIP8A (DIP; 8 Leads; Row Spacing 7.62 mm; Pitch 2.54 mm)
pins: 1 ~{CS} (in), 2 Q (out), 3 ~{WP} (in), 4 GND (power), 5 D (in), 6 SCL (in), 7 ~{HOLD} (in), 8 VCC (power)

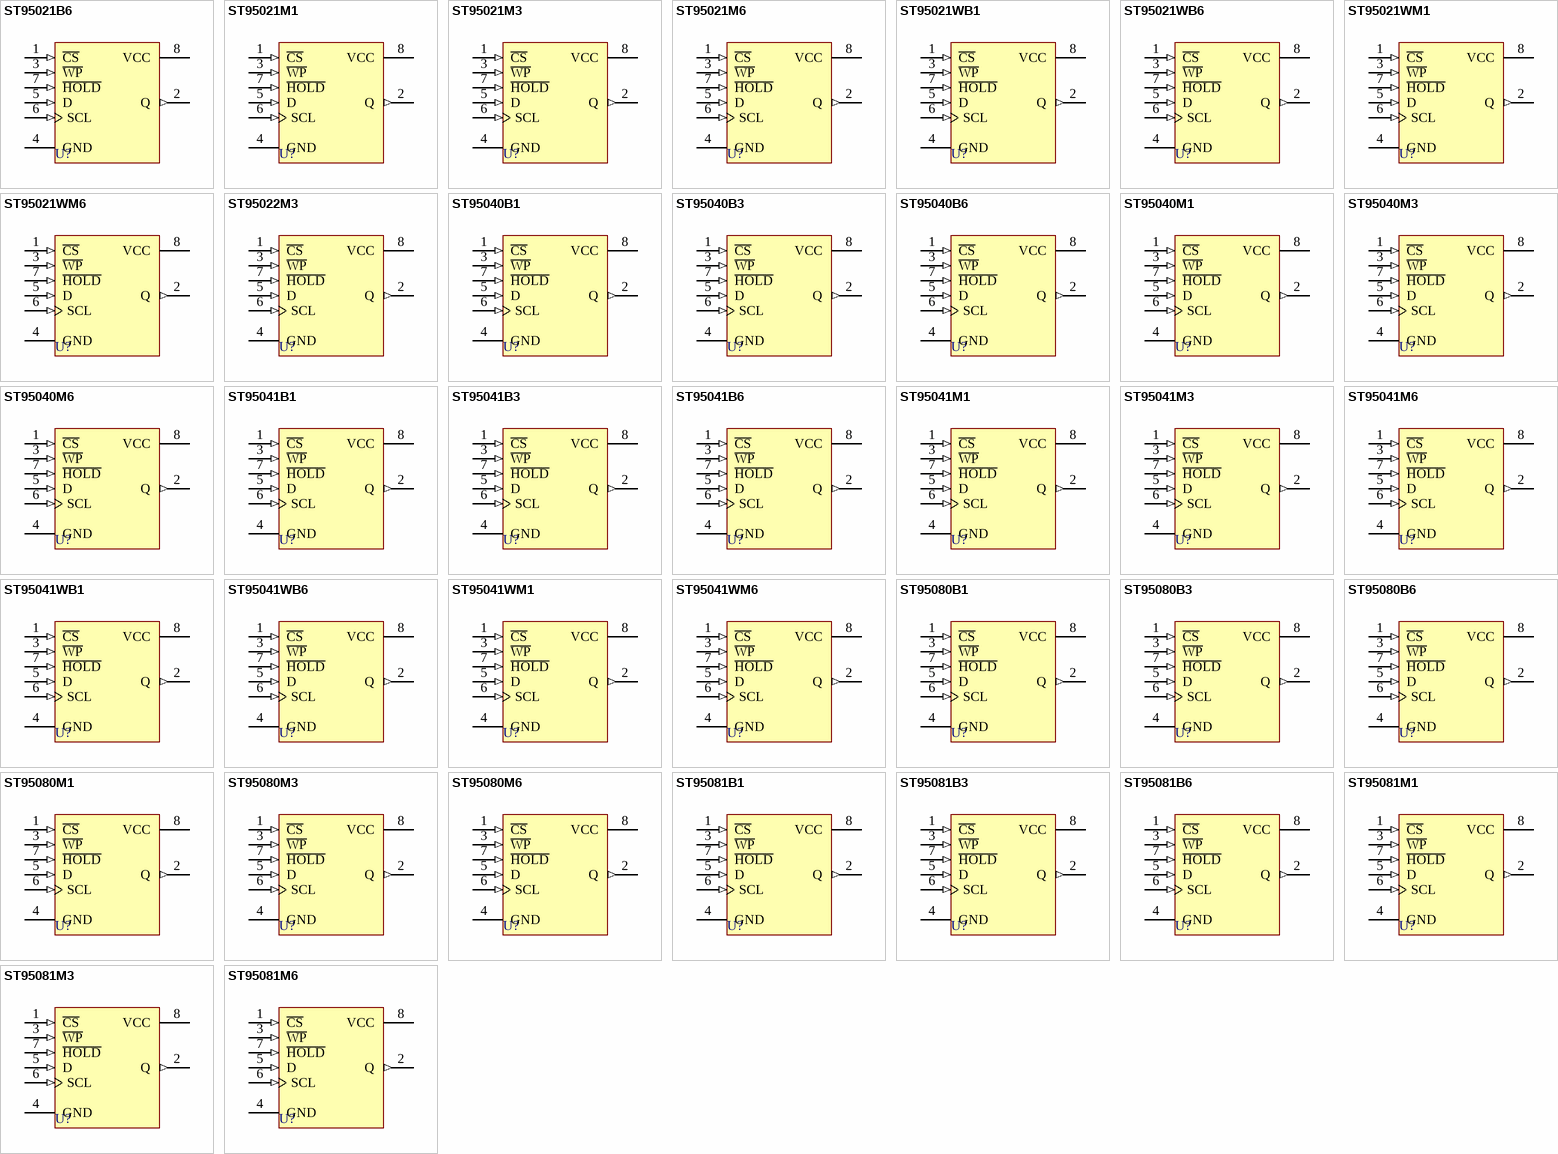
[diagram p15: symbols ST95021B6 to ST95081M6]

## ST95021B6
designator U?
2K Serial SPI EEPROM with Negative Clock Strobe; Published: 24-Aug-2001; LatestRevisionDate: 17-Jul-2002; LatestRevisionNote: Re-released for DXP Platform.; DatasheetDocument: Feb-1997; PackageDocument: Jun-1998; PackageReference: PSDIP8A; Publisher: Altium Limited
footprint PSDIP8A (DIP; 8 Leads; Row Spacing 7.62 mm; Pitch 2.54 mm)
pins: 1 ~{CS} (in), 2 Q (out), 3 ~{WP} (in), 4 GND (power), 5 D (in), 6 SCL (in), 7 ~{HOLD} (in), 8 VCC (power)

## ST95021M1
designator U?
2K Serial SPI EEPROM with Negative Clock Strobe; Published: 24-Aug-2001; LatestRevisionDate: 17-Jul-2002; LatestRevisionNote: Re-released for DXP Platform.; DatasheetDocument: Feb-1997; PackageDocument: Jul-1999; PackageReference: SOP8; Publisher: Altium Limited
footprint SOP8 (Small Outline; 8 Leads; Body Width 3.9 mm; Pitch 1.27 mm)
pins: 1 ~{CS} (in), 2 Q (out), 3 ~{WP} (in), 4 GND (power), 5 D (in), 6 SCL (in), 7 ~{HOLD} (in), 8 VCC (power)

## ST95021M3
designator U?
2K Serial SPI EEPROM with Negative Clock Strobe; Published: 24-Aug-2001; LatestRevisionDate: 17-Jul-2002; LatestRevisionNote: Re-released for DXP Platform.; DatasheetDocument: Feb-1997; PackageDocument: Jul-1999; PackageReference: SOP8; Publisher: Altium Limited
footprint SOP8 (Small Outline; 8 Leads; Body Width 3.9 mm; Pitch 1.27 mm)
pins: 1 ~{CS} (in), 2 Q (out), 3 ~{WP} (in), 4 GND (power), 5 D (in), 6 SCL (in), 7 ~{HOLD} (in), 8 VCC (power)

## ST95021M6
designator U?
2K Serial SPI EEPROM with Negative Clock Strobe; Published: 24-Aug-2001; LatestRevisionDate: 17-Jul-2002; LatestRevisionNote: Re-released for DXP Platform.; DatasheetDocument: Feb-1997; PackageDocument: Jul-1999; PackageReference: SOP8; Publisher: Altium Limited
footprint SOP8 (Small Outline; 8 Leads; Body Width 3.9 mm; Pitch 1.27 mm)
pins: 1 ~{CS} (in), 2 Q (out), 3 ~{WP} (in), 4 GND (power), 5 D (in), 6 SCL (in), 7 ~{HOLD} (in), 8 VCC (power)

## ST95021WB1
designator U?
2K Serial SPI EEPROM with Negative Clock Strobe; Published: 24-Aug-2001; LatestRevisionDate: 17-Jul-2002; LatestRevisionNote: Re-released for DXP Platform.; DatasheetDocument: Feb-1997; PackageDocument: Jun-1998; PackageReference: PSDIP8A; Publisher: Altium Limited
footprint PSDIP8A (DIP; 8 Leads; Row Spacing 7.62 mm; Pitch 2.54 mm)
pins: 1 ~{CS} (in), 2 Q (out), 3 ~{WP} (in), 4 GND (power), 5 D (in), 6 SCL (in), 7 ~{HOLD} (in), 8 VCC (power)

## ST95021WB6
designator U?
2K Serial SPI EEPROM with Negative Clock Strobe; Published: 24-Aug-2001; LatestRevisionDate: 17-Jul-2002; LatestRevisionNote: Re-released for DXP Platform.; DatasheetDocument: Feb-1997; PackageDocument: Jun-1998; PackageReference: PSDIP8A; Publisher: Altium Limited
footprint PSDIP8A (DIP; 8 Leads; Row Spacing 7.62 mm; Pitch 2.54 mm)
pins: 1 ~{CS} (in), 2 Q (out), 3 ~{WP} (in), 4 GND (power), 5 D (in), 6 SCL (in), 7 ~{HOLD} (in), 8 VCC (power)

## ST95021WM1
designator U?
2K Serial SPI EEPROM with Negative Clock Strobe; Published: 24-Aug-2001; LatestRevisionDate: 17-Jul-2002; LatestRevisionNote: Re-released for DXP Platform.; DatasheetDocument: Feb-1997; PackageDocument: Jul-1999; PackageReference: SOP8; Publisher: Altium Limited
footprint SOP8 (Small Outline; 8 Leads; Body Width 3.9 mm; Pitch 1.27 mm)
pins: 1 ~{CS} (in), 2 Q (out), 3 ~{WP} (in), 4 GND (power), 5 D (in), 6 SCL (in), 7 ~{HOLD} (in), 8 VCC (power)

## ST95021WM6
designator U?
2K Serial SPI EEPROM with Negative Clock Strobe; Published: 24-Aug-2001; LatestRevisionDate: 17-Jul-2002; LatestRevisionNote: Re-released for DXP Platform.; DatasheetDocument: Feb-1997; PackageDocument: Jul-1999; PackageReference: SOP8; Publisher: Altium Limited
footprint SOP8 (Small Outline; 8 Leads; Body Width 3.9 mm; Pitch 1.27 mm)
pins: 1 ~{CS} (in), 2 Q (out), 3 ~{WP} (in), 4 GND (power), 5 D (in), 6 SCL (in), 7 ~{HOLD} (in), 8 VCC (power)

## ST95022M3
designator U?
2Kbit Serial SPI EEPROM with High Speed Clock; Published: 24-Aug-2001; LatestRevisionDate: 17-Jul-2002; LatestRevisionNote: Re-released for DXP Platform.; DatasheetDocument: Oct-1997; PackageDocument: Jul-1999; PackageReference: SOP8; Publisher: Altium Limited
footprint SOP8 (Small Outline; 8 Leads; Body Width 3.9 mm; Pitch 1.27 mm)
pins: 1 ~{CS} (in), 2 Q (out), 3 ~{WP} (in), 4 GND (power), 5 D (in), 6 SCL (in), 7 ~{HOLD} (in), 8 VCC (power)

## ST95040B1
designator U?
4K Serial SPI EEPROM with Positive Clock Strobe; Published: 24-Aug-2001; LatestRevisionDate: 17-Jul-2002; LatestRevisionNote: Re-released for DXP Platform.; DatasheetDocument: Jun-1998; PackageDocument: Jun-1998; PackageReference: PSDIP8A; Publisher: Altium Limited
footprint PSDIP8A (DIP; 8 Leads; Row Spacing 7.62 mm; Pitch 2.54 mm)
pins: 1 ~{CS} (in), 2 Q (out), 3 ~{WP} (in), 4 GND (power), 5 D (in), 6 SCL (in), 7 ~{HOLD} (in), 8 VCC (power)

## ST95040B3
designator U?
4K Serial SPI EEPROM with Positive Clock Strobe; Published: 24-Aug-2001; LatestRevisionDate: 17-Jul-2002; LatestRevisionNote: Re-released for DXP Platform.; DatasheetDocument: Jun-1998; PackageDocument: Jun-1998; PackageReference: PSDIP8A; Publisher: Altium Limited
footprint PSDIP8A (DIP; 8 Leads; Row Spacing 7.62 mm; Pitch 2.54 mm)
pins: 1 ~{CS} (in), 2 Q (out), 3 ~{WP} (in), 4 GND (power), 5 D (in), 6 SCL (in), 7 ~{HOLD} (in), 8 VCC (power)

## ST95040B6
designator U?
4K Serial SPI EEPROM with Positive Clock Strobe; Published: 24-Aug-2001; LatestRevisionDate: 17-Jul-2002; LatestRevisionNote: Re-released for DXP Platform.; DatasheetDocument: Jun-1998; PackageDocument: Jun-1998; PackageReference: PSDIP8A; Publisher: Altium Limited
footprint PSDIP8A (DIP; 8 Leads; Row Spacing 7.62 mm; Pitch 2.54 mm)
pins: 1 ~{CS} (in), 2 Q (out), 3 ~{WP} (in), 4 GND (power), 5 D (in), 6 SCL (in), 7 ~{HOLD} (in), 8 VCC (power)

## ST95040M1
designator U?
4K Serial SPI EEPROM with Positive Clock Strobe; Published: 24-Aug-2001; LatestRevisionDate: 17-Jul-2002; LatestRevisionNote: Re-released for DXP Platform.; DatasheetDocument: Jun-1998; PackageDocument: Jul-1999; PackageReference: SOP8; Publisher: Altium Limited
footprint SOP8 (Small Outline; 8 Leads; Body Width 3.9 mm; Pitch 1.27 mm)
pins: 1 ~{CS} (in), 2 Q (out), 3 ~{WP} (in), 4 GND (power), 5 D (in), 6 SCL (in), 7 ~{HOLD} (in), 8 VCC (power)

## ST95040M3
designator U?
4K Serial SPI EEPROM with Positive Clock Strobe; Published: 24-Aug-2001; LatestRevisionDate: 17-Jul-2002; LatestRevisionNote: Re-released for DXP Platform.; DatasheetDocument: Jun-1998; PackageDocument: Jul-1999; PackageReference: SOP8; Publisher: Altium Limited
footprint SOP8 (Small Outline; 8 Leads; Body Width 3.9 mm; Pitch 1.27 mm)
pins: 1 ~{CS} (in), 2 Q (out), 3 ~{WP} (in), 4 GND (power), 5 D (in), 6 SCL (in), 7 ~{HOLD} (in), 8 VCC (power)

## ST95040M6
designator U?
4K Serial SPI EEPROM with Positive Clock Strobe; Published: 24-Aug-2001; LatestRevisionDate: 17-Jul-2002; LatestRevisionNote: Re-released for DXP Platform.; DatasheetDocument: Jun-1998; PackageDocument: Jul-1999; PackageReference: SOP8; Publisher: Altium Limited
footprint SOP8 (Small Outline; 8 Leads; Body Width 3.9 mm; Pitch 1.27 mm)
pins: 1 ~{CS} (in), 2 Q (out), 3 ~{WP} (in), 4 GND (power), 5 D (in), 6 SCL (in), 7 ~{HOLD} (in), 8 VCC (power)

## ST95041B1
designator U?
4K Serial SPI EEPROM with Negative Clock Strobe; Published: 24-Aug-2001; LatestRevisionDate: 17-Jul-2002; LatestRevisionNote: Re-released for DXP Platform.; DatasheetDocument: Feb-1997; PackageDocument: Jun-1998; PackageReference: PSDIP8A; Publisher: Altium Limited
footprint PSDIP8A (DIP; 8 Leads; Row Spacing 7.62 mm; Pitch 2.54 mm)
pins: 1 ~{CS} (in), 2 Q (out), 3 ~{WP} (in), 4 GND (power), 5 D (in), 6 SCL (in), 7 ~{HOLD} (in), 8 VCC (power)

## ST95041B3
designator U?
4K Serial SPI EEPROM with Negative Clock Strobe; Published: 24-Aug-2001; LatestRevisionDate: 17-Jul-2002; LatestRevisionNote: Re-released for DXP Platform.; DatasheetDocument: Feb-1997; PackageDocument: Jun-1998; PackageReference: PSDIP8A; Publisher: Altium Limited
footprint PSDIP8A (DIP; 8 Leads; Row Spacing 7.62 mm; Pitch 2.54 mm)
pins: 1 ~{CS} (in), 2 Q (out), 3 ~{WP} (in), 4 GND (power), 5 D (in), 6 SCL (in), 7 ~{HOLD} (in), 8 VCC (power)

## ST95041B6
designator U?
4K Serial SPI EEPROM with Negative Clock Strobe; Published: 24-Aug-2001; LatestRevisionDate: 17-Jul-2002; LatestRevisionNote: Re-released for DXP Platform.; DatasheetDocument: Feb-1997; PackageDocument: Jun-1998; PackageReference: PSDIP8A; Publisher: Altium Limited
footprint PSDIP8A (DIP; 8 Leads; Row Spacing 7.62 mm; Pitch 2.54 mm)
pins: 1 ~{CS} (in), 2 Q (out), 3 ~{WP} (in), 4 GND (power), 5 D (in), 6 SCL (in), 7 ~{HOLD} (in), 8 VCC (power)

## ST95041M1
designator U?
4K Serial SPI EEPROM with Negative Clock Strobe; Published: 24-Aug-2001; LatestRevisionDate: 17-Jul-2002; LatestRevisionNote: Re-released for DXP Platform.; DatasheetDocument: Feb-1997; PackageDocument: Jul-1999; PackageReference: SOP8; Publisher: Altium Limited
footprint SOP8 (Small Outline; 8 Leads; Body Width 3.9 mm; Pitch 1.27 mm)
pins: 1 ~{CS} (in), 2 Q (out), 3 ~{WP} (in), 4 GND (power), 5 D (in), 6 SCL (in), 7 ~{HOLD} (in), 8 VCC (power)

## ST95041M3
designator U?
4K Serial SPI EEPROM with Negative Clock Strobe; Published: 24-Aug-2001; LatestRevisionDate: 17-Jul-2002; LatestRevisionNote: Re-released for DXP Platform.; DatasheetDocument: Feb-1997; PackageDocument: Jul-1999; PackageReference: SOP8; Publisher: Altium Limited
footprint SOP8 (Small Outline; 8 Leads; Body Width 3.9 mm; Pitch 1.27 mm)
pins: 1 ~{CS} (in), 2 Q (out), 3 ~{WP} (in), 4 GND (power), 5 D (in), 6 SCL (in), 7 ~{HOLD} (in), 8 VCC (power)

## ST95041M6
designator U?
4K Serial SPI EEPROM with Negative Clock Strobe; Published: 24-Aug-2001; LatestRevisionDate: 17-Jul-2002; LatestRevisionNote: Re-released for DXP Platform.; DatasheetDocument: Feb-1997; PackageDocument: Jul-1999; PackageReference: SOP8; Publisher: Altium Limited
footprint SOP8 (Small Outline; 8 Leads; Body Width 3.9 mm; Pitch 1.27 mm)
pins: 1 ~{CS} (in), 2 Q (out), 3 ~{WP} (in), 4 GND (power), 5 D (in), 6 SCL (in), 7 ~{HOLD} (in), 8 VCC (power)

## ST95041WB1
designator U?
4K Serial SPI EEPROM with Negative Clock Strobe; Published: 24-Aug-2001; LatestRevisionDate: 17-Jul-2002; LatestRevisionNote: Re-released for DXP Platform.; DatasheetDocument: Feb-1997; PackageDocument: Jun-1998; PackageReference: PSDIP8A; Publisher: Altium Limited
footprint PSDIP8A (DIP; 8 Leads; Row Spacing 7.62 mm; Pitch 2.54 mm)
pins: 1 ~{CS} (in), 2 Q (out), 3 ~{WP} (in), 4 GND (power), 5 D (in), 6 SCL (in), 7 ~{HOLD} (in), 8 VCC (power)

## ST95041WB6
designator U?
4K Serial SPI EEPROM with Negative Clock Strobe; Published: 24-Aug-2001; LatestRevisionDate: 17-Jul-2002; LatestRevisionNote: Re-released for DXP Platform.; DatasheetDocument: Feb-1997; PackageDocument: Jun-1998; PackageReference: PSDIP8A; Publisher: Altium Limited
footprint PSDIP8A (DIP; 8 Leads; Row Spacing 7.62 mm; Pitch 2.54 mm)
pins: 1 ~{CS} (in), 2 Q (out), 3 ~{WP} (in), 4 GND (power), 5 D (in), 6 SCL (in), 7 ~{HOLD} (in), 8 VCC (power)

## ST95041WM1
designator U?
4K Serial SPI EEPROM with Negative Clock Strobe; Published: 24-Aug-2001; LatestRevisionDate: 17-Jul-2002; LatestRevisionNote: Re-released for DXP Platform.; DatasheetDocument: Feb-1997; PackageDocument: Jul-1999; PackageReference: SOP8; Publisher: Altium Limited
footprint SOP8 (Small Outline; 8 Leads; Body Width 3.9 mm; Pitch 1.27 mm)
pins: 1 ~{CS} (in), 2 Q (out), 3 ~{WP} (in), 4 GND (power), 5 D (in), 6 SCL (in), 7 ~{HOLD} (in), 8 VCC (power)

## ST95041WM6
designator U?
4K Serial SPI EEPROM with Negative Clock Strobe; Published: 24-Aug-2001; LatestRevisionDate: 17-Jul-2002; LatestRevisionNote: Re-released for DXP Platform.; DatasheetDocument: Feb-1997; PackageDocument: Jul-1999; PackageReference: SOP8; Publisher: Altium Limited
footprint SOP8 (Small Outline; 8 Leads; Body Width 3.9 mm; Pitch 1.27 mm)
pins: 1 ~{CS} (in), 2 Q (out), 3 ~{WP} (in), 4 GND (power), 5 D (in), 6 SCL (in), 7 ~{HOLD} (in), 8 VCC (power)

## ST95080B1
designator U?
Serial Access SPI Bus 8K (1024 x 8) EEPROM; Published: 24-Aug-2001; LatestRevisionDate: 17-Jul-2002; LatestRevisionNote: Re-released for DXP Platform.; DatasheetDocument: Oct-1995; PackageDocument: Jun-1998; PackageReference: PSDIP8A; Publisher: Altium Limited
footprint PSDIP8A (DIP; 8 Leads; Row Spacing 7.62 mm; Pitch 2.54 mm)
pins: 1 ~{CS} (in), 2 Q (out), 3 ~{WP} (in), 4 GND (power), 5 D (in), 6 SCL (in), 7 ~{HOLD} (in), 8 VCC (power)

## ST95080B3
designator U?
Serial Access SPI Bus 8K (1024 x 8) EEPROM; Published: 24-Aug-2001; LatestRevisionDate: 17-Jul-2002; LatestRevisionNote: Re-released for DXP Platform.; DatasheetDocument: Oct-1995; PackageDocument: Jun-1998; PackageReference: PSDIP8A; Publisher: Altium Limited
footprint PSDIP8A (DIP; 8 Leads; Row Spacing 7.62 mm; Pitch 2.54 mm)
pins: 1 ~{CS} (in), 2 Q (out), 3 ~{WP} (in), 4 GND (power), 5 D (in), 6 SCL (in), 7 ~{HOLD} (in), 8 VCC (power)

## ST95080B6
designator U?
Serial Access SPI Bus 8K (1024 x 8) EEPROM; Published: 24-Aug-2001; LatestRevisionDate: 17-Jul-2002; LatestRevisionNote: Re-released for DXP Platform.; DatasheetDocument: Oct-1995; PackageDocument: Jun-1998; PackageReference: PSDIP8A; Publisher: Altium Limited
footprint PSDIP8A (DIP; 8 Leads; Row Spacing 7.62 mm; Pitch 2.54 mm)
pins: 1 ~{CS} (in), 2 Q (out), 3 ~{WP} (in), 4 GND (power), 5 D (in), 6 SCL (in), 7 ~{HOLD} (in), 8 VCC (power)

## ST95080M1
designator U?
Serial Access SPI Bus 8K (1024 x 8) EEPROM; Published: 24-Aug-2001; LatestRevisionDate: 17-Jul-2002; LatestRevisionNote: Re-released for DXP Platform.; DatasheetDocument: Oct-1995; PackageDocument: Jul-1999; PackageReference: SOP8; Publisher: Altium Limited
footprint SOP8 (Small Outline; 8 Leads; Body Width 3.9 mm; Pitch 1.27 mm)
pins: 1 ~{CS} (in), 2 Q (out), 3 ~{WP} (in), 4 GND (power), 5 D (in), 6 SCL (in), 7 ~{HOLD} (in), 8 VCC (power)

## ST95080M3
designator U?
Serial Access SPI Bus 8K (1024 x 8) EEPROM; Published: 24-Aug-2001; LatestRevisionDate: 17-Jul-2002; LatestRevisionNote: Re-released for DXP Platform.; DatasheetDocument: Oct-1995; PackageDocument: Jul-1999; PackageReference: SOP8; Publisher: Altium Limited
footprint SOP8 (Small Outline; 8 Leads; Body Width 3.9 mm; Pitch 1.27 mm)
pins: 1 ~{CS} (in), 2 Q (out), 3 ~{WP} (in), 4 GND (power), 5 D (in), 6 SCL (in), 7 ~{HOLD} (in), 8 VCC (power)

## ST95080M6
designator U?
Serial Access SPI Bus 8K (1024 x 8) EEPROM; Published: 24-Aug-2001; LatestRevisionDate: 17-Jul-2002; LatestRevisionNote: Re-released for DXP Platform.; DatasheetDocument: Oct-1995; PackageDocument: Jul-1999; PackageReference: SOP8; Publisher: Altium Limited
footprint SOP8 (Small Outline; 8 Leads; Body Width 3.9 mm; Pitch 1.27 mm)
pins: 1 ~{CS} (in), 2 Q (out), 3 ~{WP} (in), 4 GND (power), 5 D (in), 6 SCL (in), 7 ~{HOLD} (in), 8 VCC (power)

## ST95081B1
designator U?
Serial Access SPI Bus 8K (1024 x 8) EEPROM; Published: 24-Aug-2001; LatestRevisionDate: 17-Jul-2002; LatestRevisionNote: Re-released for DXP Platform.; DatasheetDocument: Oct-1995; PackageDocument: Jun-1998; PackageReference: PSDIP8A; Publisher: Altium Limited
footprint PSDIP8A (DIP; 8 Leads; Row Spacing 7.62 mm; Pitch 2.54 mm)
pins: 1 ~{CS} (in), 2 Q (out), 3 ~{WP} (in), 4 GND (power), 5 D (in), 6 SCL (in), 7 ~{HOLD} (in), 8 VCC (power)

## ST95081B3
designator U?
Serial Access SPI Bus 8K (1024 x 8) EEPROM; Published: 24-Aug-2001; LatestRevisionDate: 17-Jul-2002; LatestRevisionNote: Re-released for DXP Platform.; DatasheetDocument: Oct-1995; PackageDocument: Jun-1998; PackageReference: PSDIP8A; Publisher: Altium Limited
footprint PSDIP8A (DIP; 8 Leads; Row Spacing 7.62 mm; Pitch 2.54 mm)
pins: 1 ~{CS} (in), 2 Q (out), 3 ~{WP} (in), 4 GND (power), 5 D (in), 6 SCL (in), 7 ~{HOLD} (in), 8 VCC (power)

## ST95081B6
designator U?
Serial Access SPI Bus 8K (1024 x 8) EEPROM; Published: 24-Aug-2001; LatestRevisionDate: 17-Jul-2002; LatestRevisionNote: Re-released for DXP Platform.; DatasheetDocument: Oct-1995; PackageDocument: Jun-1998; PackageReference: PSDIP8A; Publisher: Altium Limited
footprint PSDIP8A (DIP; 8 Leads; Row Spacing 7.62 mm; Pitch 2.54 mm)
pins: 1 ~{CS} (in), 2 Q (out), 3 ~{WP} (in), 4 GND (power), 5 D (in), 6 SCL (in), 7 ~{HOLD} (in), 8 VCC (power)

## ST95081M1
designator U?
Serial Access SPI Bus 8K (1024 x 8) EEPROM; Published: 24-Aug-2001; LatestRevisionDate: 17-Jul-2002; LatestRevisionNote: Re-released for DXP Platform.; DatasheetDocument: Oct-1995; PackageDocument: Jul-1999; PackageReference: SOP8; Publisher: Altium Limited
footprint SOP8 (Small Outline; 8 Leads; Body Width 3.9 mm; Pitch 1.27 mm)
pins: 1 ~{CS} (in), 2 Q (out), 3 ~{WP} (in), 4 GND (power), 5 D (in), 6 SCL (in), 7 ~{HOLD} (in), 8 VCC (power)